# Altium schematic symbol library RTD.SCHLIB: 18 symbols
Pins are listed as number, name and electrical type; pins without a type are passive.

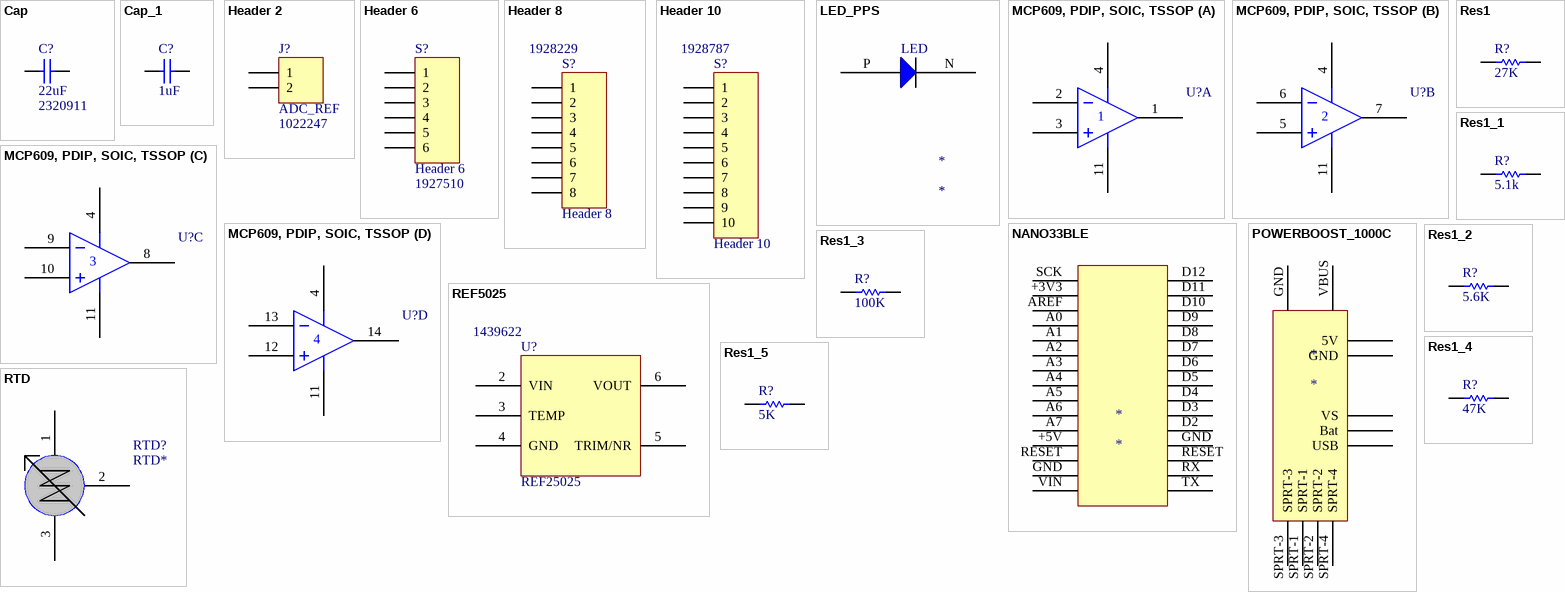
[diagram p0: symbols Cap to RTD]

## Cap
designator C?  value 22uF  Supplier Part Number 1: 2320911  (hidden comment: Cap)
Capacitor; Published: 8-Jun-2000; LatestRevisionDate: 17-Jul-2002; LatestRevisionNote: Re-released for DXP Platform.; PackageReference: RAD-0.3; Publisher: Altium Limited; PackageDescription: Radial Cap, Thru-Hole; 2 Leads; 0.3 in Pin Spacing; Supplier 1: Farnell
simulation model CAP (Capacitor)
signal-integrity model Cap
footprint 1206
pins: 1, 2

## Cap_1
designator C?, comment value 1uF  (hidden comment: Cap)
Capacitor; Published: 8-Jun-2000; LatestRevisionDate: 17-Jul-2002; LatestRevisionNote: Re-released for DXP Platform.; PackageReference: RAD-0.3; Publisher: Altium Limited; PackageDescription: Radial Cap, Thru-Hole; 2 Leads; 0.3 in Pin Spacing
simulation model CAP (Capacitor)
signal-integrity model Cap
footprint 1206
pins: 1, 2

## Header 2
designator J?, comment ADC_REF  Supplier Part Number 1: 1022247
Header, 2-Pin; LatestRevisionDate: 17-Jul-2002; LatestRevisionNote: Re-released for DXP Platform.; Publisher: Altium Limited; Supplier 1: Farnell
footprint HDR1X2 (Connector; Header; 2 Position)
signal-integrity model Connector
pins: 1, 2

## Header 6
designator S?  Supplier Part Number 1: 1927510
Header, 6-Pin; LatestRevisionDate: 17-Jul-2002; LatestRevisionNote: Re-released for DXP Platform.; Publisher: Altium Limited; Supplier 1: Farnell
signal-integrity model Connector
footprint HEADER 1x6
pins: 1, 2, 3, 4, 5, 6

## Header 8
designator S?  Supplier Part Number 1: 1928229
Header, 8-Pin; LatestRevisionDate: 17-Jul-2002; LatestRevisionNote: Re-released for DXP Platform.; Publisher: Altium Limited; Supplier 1: Farnell
signal-integrity model Connector
footprint HEADER 1x8
pins: 1, 2, 3, 4, 5, 6, 7, 8

## Header 10
designator S?  Supplier Part Number 1: 1928787
Header, 10-Pin; LatestRevisionDate: 17-Jul-2002; LatestRevisionNote: Re-released for DXP Platform.; Publisher: Altium Limited; Supplier 1: Farnell
signal-integrity model Connector
footprint Header 1x10
pins: 1, 2, 3, 4, 5, 6, 7, 8, 9, 10

## LED_PPS
designator *
footprint LED_PPS (LED for PPS Sensor)
pins: N 1, P 0
text: LED

## MCP609, PDIP, SOIC, TSSOP
designator U?  (value not drawn)
footprint DIP_14_2.55
part A pins: 1 VOUTA, 2 VINA-, 3 VINA+, 4 VDD, 11 VSS
part B pins: 4 VDD, 5 VINB+, 6 VINB-, 7 VOUTB, 11 VSS
part C pins: 4 VDD, 8 VOUTC, 9 VINC-, 10 VINC+, 11 VSS
part D pins: 4 VDD, 11 VSS, 12 VIND+, 13 VIND-, 14 VOUTD

## NANO33BLE
designator *
footprint ARDUINO_NANO_BLE_33 (Arduino Nano 33 BLE ABX00030)
pins: +3V3 2, +5V 12, A0 4, A1 5, A2 6, A3 7, A4 8, A5 9, A6 10, A7 11, AREF 3, D2 26, D3 25, D4 24, D5 23, D6 22, D7  , D8 20, D9 19, D10 18, D11  , D12 16, GND 14, GND 27, RESET 13, RESET 28, RX 29, SCK 1, TX 30, VIN 15

## POWERBOOST_1000C
designator *
footprint POWERBOOST_1000C (USB charger and 3.7-5V DC-DC Converter)
pins: 5V, Bat, GND, GND, SPRT-1, SPRT-2, SPRT-3, SPRT-4, USB, VBUS, VS
text: PB1000C

## REF5025
designator U?, comment REF25025  Supplier Part Number 1: 1439622
Supplier 1: Farnell
footprint REF5025AIDG4
pins: 2 VIN, 3 TEMP, 4 GND, 5 TRIM/NR, 6 VOUT

## Res1
designator R?  value 27K  (hidden comment: Res1)
Resistor; Published: 8-Jun-2000; LatestRevisionDate: 17-Jul-2002; LatestRevisionNote: Re-released for DXP Platform.; PackageReference: AXIAL-0.3; Publisher: Altium Limited; PackageDescription: Axial Device, Thru-Hole; 2 Leads; 0.3 in Pin Spacing
footprint AXIAL-0.3 (Axial Device, Thru-Hole; 2 Leads; 0.3 in Pin Spacing)
simulation model RESISTOR (Resistor)
signal-integrity model Res
pins: 1, 2

## Res1_1
designator R?, comment value 5.1k  (hidden comment: Res1)
Resistor; Published: 8-Jun-2000; LatestRevisionDate: 17-Jul-2002; LatestRevisionNote: Re-released for DXP Platform.; PackageReference: AXIAL-0.3; Publisher: Altium Limited; PackageDescription: Axial Device, Thru-Hole; 2 Leads; 0.3 in Pin Spacing
footprint AXIAL-0.3 (Axial Device, Thru-Hole; 2 Leads; 0.3 in Pin Spacing)
simulation model RESISTOR (Resistor)
signal-integrity model Res
pins: 1, 2

## Res1_2
designator R?, comment value 5.6K  (hidden comment: Res1)
Resistor; Published: 8-Jun-2000; LatestRevisionDate: 17-Jul-2002; LatestRevisionNote: Re-released for DXP Platform.; PackageReference: AXIAL-0.3; Publisher: Altium Limited; PackageDescription: Axial Device, Thru-Hole; 2 Leads; 0.3 in Pin Spacing
footprint AXIAL-0.3 (Axial Device, Thru-Hole; 2 Leads; 0.3 in Pin Spacing)
simulation model RESISTOR (Resistor)
signal-integrity model Res
pins: 1, 2

## Res1_3
designator R?, comment value 100K  (hidden comment: Res1)
Resistor; Published: 8-Jun-2000; LatestRevisionDate: 17-Jul-2002; LatestRevisionNote: Re-released for DXP Platform.; PackageReference: AXIAL-0.3; Publisher: Altium Limited; PackageDescription: Axial Device, Thru-Hole; 2 Leads; 0.3 in Pin Spacing
footprint AXIAL-0.3 (Axial Device, Thru-Hole; 2 Leads; 0.3 in Pin Spacing)
simulation model RESISTOR (Resistor)
signal-integrity model Res
pins: 1, 2

## Res1_4
designator R?, comment value 47K  (hidden comment: Res1)
Resistor; Published: 8-Jun-2000; LatestRevisionDate: 17-Jul-2002; LatestRevisionNote: Re-released for DXP Platform.; PackageReference: AXIAL-0.3; Publisher: Altium Limited; PackageDescription: Axial Device, Thru-Hole; 2 Leads; 0.3 in Pin Spacing
footprint AXIAL-0.3 (Axial Device, Thru-Hole; 2 Leads; 0.3 in Pin Spacing)
simulation model RESISTOR (Resistor)
signal-integrity model Res
pins: 1, 2

## Res1_5
designator R?, comment value 5K  (hidden comment: Res1)
Resistor; Published: 8-Jun-2000; LatestRevisionDate: 17-Jul-2002; LatestRevisionNote: Re-released for DXP Platform.; PackageReference: AXIAL-0.3; Publisher: Altium Limited; PackageDescription: Axial Device, Thru-Hole; 2 Leads; 0.3 in Pin Spacing
footprint AXIAL-0.3 (Axial Device, Thru-Hole; 2 Leads; 0.3 in Pin Spacing)
simulation model RESISTOR (Resistor)
signal-integrity model Res
pins: 1, 2

## RTD
designator RTD?, comment RTD*
pins: 1 RTD1, 2 RTD2, 3 RTD3